# EAGLE library part LPC11A13FHI33 (library nxp_60_1_1)
32-bit ARM Cortex-M0 microcontroller; up to 32 kB flash, 8 kB SRAM, 4 kB EEPROM; configurable analog/mixed-signal The LPC11Axx are an ARM Cortex-M0 based, low-cost 32-bit MCU family, designed for 8/16-bit microcontroller applications, offering performance, low power, simple instruction set and memory addressing together with reduced code size compared to existing 8/16-bit architectures. The LPC11Axx operate at CPU frequencies of up to 50 MHz. Analog/mixed-signal subsystems can be configured by software from interconnected digital and analog peripherals. The digital peripherals on the LPC11Axx include up to 32 kB of flash memory, up to 4 kB of EEPROM data memory, up to 8 kB of SRAM data memory, a Fast-mode Plus I 2 C-bus interface, a RS-485/EIA-485 USART, two SSP controllers, four general purpose counter/timers, and up to 42 general purpose I/O pins. Analog peripherals include a 10-bit ADC, a 10-bit DAC, an analog comparator, a temperature sensor, an internal voltage reference, and UnderVoltage LockOut (UVLO) protection. AAL Eindhoven MK
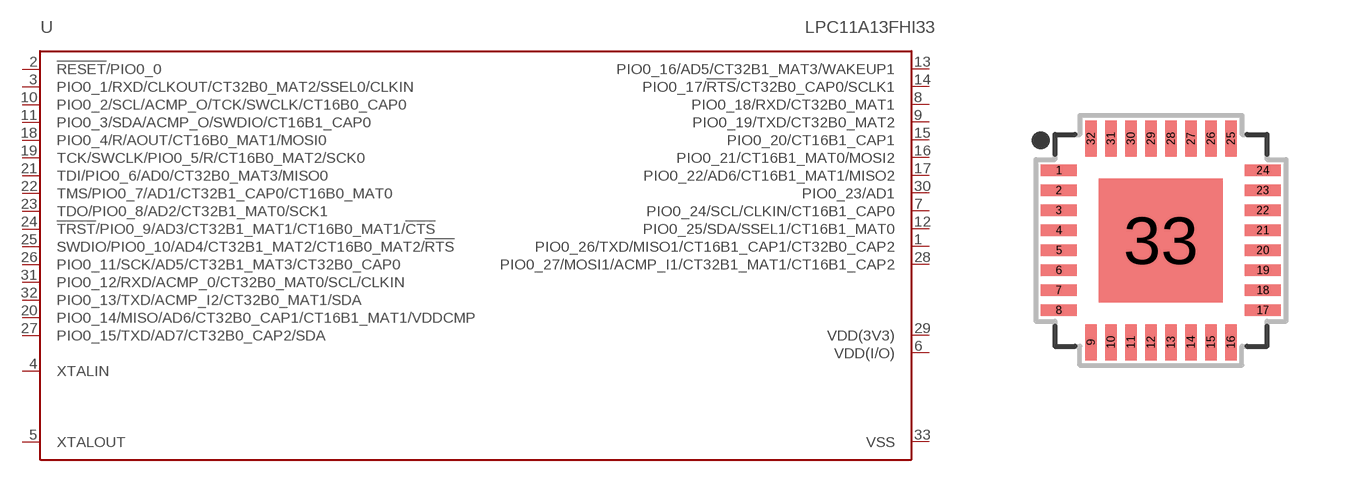
[diagram p125: symbol with the pads of SOT617-1; footprint SOT617-1]

Designator prefix U

## LPC11A13FHI33  [SOT617-1]
1  PIO0_26/TXD/MISO1/CT16B1_CAP1/CT32B0_CAP2
2  !RESET!/PIO0_0
3  PIO0_1/RXD/CLKOUT/CT32B0_MAT2/SSEL0/CLKIN
4  XTALIN  pas
5  XTALOUT  pas
6  VDD(I/O)  pwr
7  PIO0_24/SCL/CLKIN/CT16B1_CAP0
8  PIO0_18/RXD/CT32B0_MAT1
9  PIO0_19/TXD/CT32B0_MAT2
10  PIO0_2/SCL/ACMP_O/TCK/SWCLK/CT16B0_CAP0
11  PIO0_3/SDA/ACMP_O/SWDIO/CT16B1_CAP0
12  PIO0_25/SDA/SSEL1/CT16B1_MAT0
13  PIO0_16/AD5/CT32B1_MAT3/WAKEUP1
14  PIO0_17/!RTS!/CT32B0_CAP0/SCLK1
15  PIO0_20/CT16B1_CAP1
16  PIO0_21/CT16B1_MAT0/MOSI2
17  PIO0_22/AD6/CT16B1_MAT1/MISO2
18  PIO0_4/R/AOUT/CT16B0_MAT1/MOSI0
19  TCK/SWCLK/PIO0_5/R/CT16B0_MAT2/SCK0
20  PIO0_14/MISO/AD6/CT32B0_CAP1/CT16B1_MAT1/VDDCMP
21  TDI/PIO0_6/AD0/CT32B0_MAT3/MISO0
22  TMS/PIO0_7/AD1/CT32B1_CAP0/CT16B0_MAT0
23  TDO/PIO0_8/AD2/CT32B1_MAT0/SCK1
24  !TRST!/PIO0_9/AD3/CT32B1_MAT1/CT16B0_MAT1/!CTS!
25  SWDIO/PIO0_10/AD4/CT32B1_MAT2/CT16B0_MAT2/!RTS!
26  PIO0_11/SCK/AD5/CT32B1_MAT3/CT32B0_CAP0
27  PIO0_15/TXD/AD7/CT32B0_CAP2/SDA
28  PIO0_27/MOSI1/ACMP_I1/CT32B1_MAT1/CT16B1_CAP2
29  VDD(3V3)  pwr
30  PIO0_23/AD1
31  PIO0_12/RXD/ACMP_0/CT32B0_MAT0/SCL/CLKIN
32  PIO0_13/TXD/ACMP_I2/CT32B0_MAT1/SDA
33  VSS  pwr

## Footprint SOT617-1 (pad centres in mm)
SOT617-1 HVQFN32: plastic thermal enhanced very thin quad flat package; no leads; 32 terminals; body 5 x 5 x 0.85 mm JEDEC: MO-220 IEC: ---
smd 0.9 x 0.29: 1 -2.55,1.75; 2 -2.55,1.25; 3 -2.55,0.75; 4 -2.55,0.25; 5 -2.55,-0.25; 6 -2.55,-0.75; 7 -2.55,-1.25; 8 -2.55,-1.75; 17 2.55,-1.75; 18 2.55,-1.25; 19 2.55,-0.75; 20 2.55,-0.25; 21 2.55,0.25; 22 2.55,0.75; 23 2.55,1.25; 24 2.55,1.75
smd 0.29 x 0.9: 9 -1.75,-2.55; 10 -1.25,-2.55; 11 -0.75,-2.55; 12 -0.25,-2.55; 13 0.25,-2.55; 14 0.75,-2.55; 15 1.25,-2.55; 16 1.75,-2.55; 25 1.75,2.55; 26 1.25,2.55; 27 0.75,2.55; 28 0.25,2.55; 29 -0.25,2.55; 30 -0.75,2.55; 31 -1.25,2.55; 32 -1.75,2.55
smd 3.1 x 3.1: 33 0,0